# Altium footprint library 1812C.PcbLib: 1 footprints
Each footprint in its own frame and in the unit in brackets; x right, y up, seen from the top. Pads: shape width x height; smd on the part's side, far side on the other; paste and mask are expansions set on the pad; w line width, h text height; cw(c..) or ccw(c..) is an arc to the next point about the centre after c.
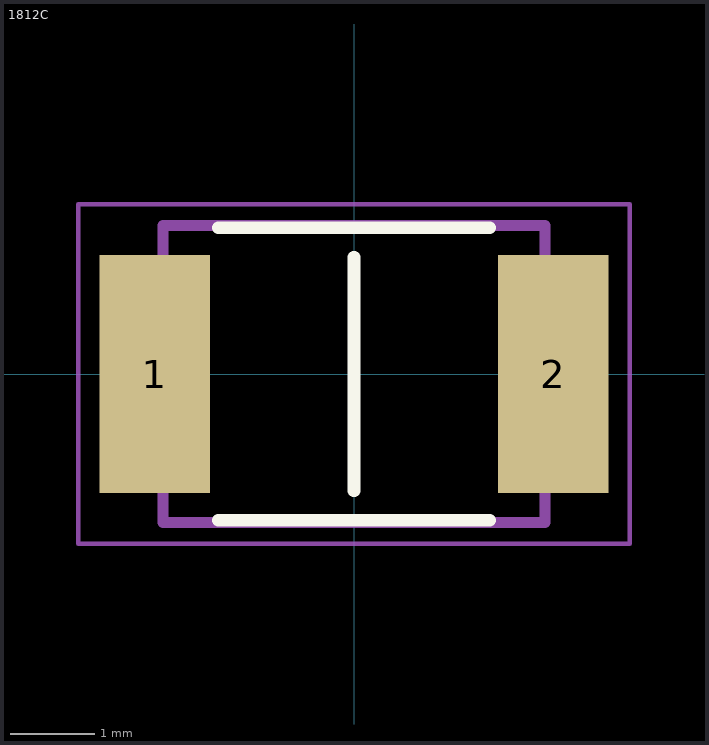
[diagram p0: the footprint, top view; thin cyan lines are the x and y axes]

## 1812C [mm]
height 3.5
pads (2):
  rect 1.3x2.8 smd: 1(-2.35,0) 2(2.35,0)
Top Overlay:
  lines w0.15: -1.6,-1.725 1.6,-1.725 ; -1.6,1.725 1.6,1.725 ; 0,-1.375 0,0 0,1.375
Mechanical 13:
  lines w0.127: -2.25,-1.75 -2.25,1.75 2.25,1.75 2.25,-1.75 -2.25,-1.75
Mechanical 15:
  lines w0.05: -3.25,-2 -3.25,2 3.25,2 3.25,-2 -3.25,-2
3D body "C1812.stp": height 2.62, standoff 0.02, extent -2.25,-1.6 2.25,1.6